# Altium schematic symbol library Horizontal Half Shielded Modular Jack.SchLib: 2 symbols
Pins are listed as number, name and electrical type; pins without a type are passive.

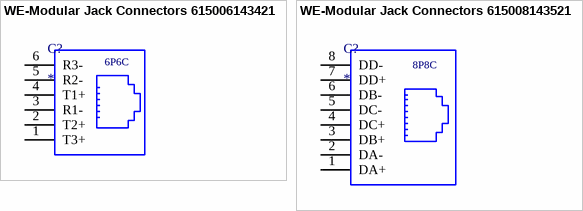
[diagram p0: symbols WE-Modular Jack Connectors 615006143421 to WE-Modular Jack Connectors 615008143521]

## WE-Modular Jack Connectors 615006143421
designator C?
WR-COM Modular Jack Horizontal Half-shielded 1x1 TH    6P6C Tab Down; Manufacturer: Würth Elektronik eiSos GmbH; partNo: 615006143421; ComponentLink1 Description: Manufacturer; ComponentLink2 Description: Datasheet; NoPins: 6; ComponentLink1URL: http://www.we-online.de; ComponentLink2URL: http://katalog.we-online.de/em/datasheet/615006143421.pdf; Created by: Karrer Zheng; Created Date: 10/22/2014
footprint 615006143421
pins: 1 T3+, 2 T2+, 3 R1-, 4 T1+, 5 R2-, 6 R3-
text: 6P6C

## WE-Modular Jack Connectors 615008143521
designator C?
WR-COM Modular Jack Horizontal Half-shielded 1x1 TH    8P8C Tab Down; Manufacturer: Würth Elektronik eiSos GmbH; partNo: 615008143521; ComponentLink1 Description: Manufacturer; ComponentLink2 Description: Datasheet; NoPins: 8; ComponentLink1URL: http://www.we-online.de; ComponentLink2URL: http://katalog.we-online.de/em/datasheet/615008143521.pdf; Created by: Karrer Zheng; Created Date: 10/22/2014
footprint 615008143521
pins: 1 DA+, 2 DA-, 3 DB+, 4 DC+, 5 DC-, 6 DB-, 7 DD+, 8 DD-
text: 8P8C